# Altium schematic symbol library JMD_Parts.SchLib: 14 symbols
Pins are listed as number, name and electrical type; pins without a type are passive.

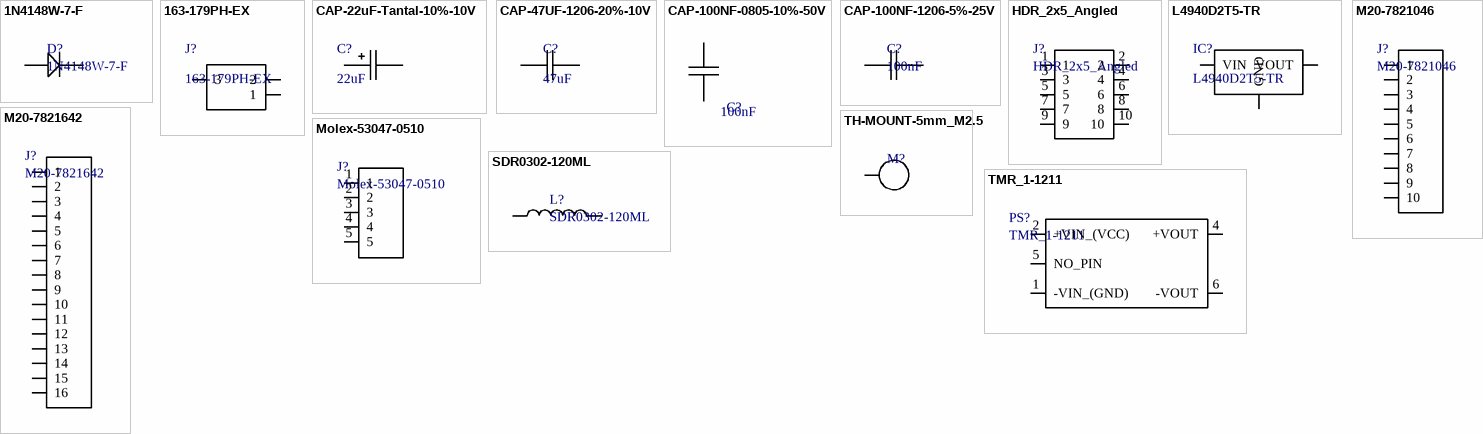
[diagram p0: symbols 1N4148W-7-F to TMR_1-1211]

## 1N4148W-7-F
designator D?
Diode; Manufacturer_Name: Diodes Inc.; Datasheet Link: https://componentsearchengine.com/Datasheets/1/1N4148W-7-F.pdf; Height: 1.15mm; Mouser2 Part Number: 621-1N4148W-F; Mouser2 Price/Stock: https://www.mouser.com/Search/Refine.aspx?Keyword=621-1N4148W-F; Manufacturer_Part_Number: 1N4148W-7-F
footprint SOD3716X115N
pins: 1 K, 2 A

## 163-179PH-EX
designator J?
Connector; Manufacturer_Name: Kobiconn; Datasheet Link: https://componentsearchengine.com/Datasheets/1/163-179PH-EX.pdf; Height: 11mm; Mouser2 Part Number: 163-179PH-EX; Manufacturer_Part_Number: 163-179PH-EX
footprint 163179PHEX
pins: 1, 2, 3

## CAP-22uF-Tantal-10%-10V
designator C?, comment 22uF
Capacitor Polarised; Manufacturer_Name: AVX; Manufacturer_Part_Number: TPSA226K010T0900; Datasheet Link: https://componentsearchengine.com/Datasheets/1/TPSA226K010T0900.pdf; Height: 1.8mm; Mouser2 Part Number: 581-TPSA226K010T0900
footprint CAPPM3216X180N
pins: 1, 2

## CAP-47UF-1206-20%-10V
designator C?, comment 47uF
Capacitor; Manufacturer_Name: Kemet; Manufacturer_Part_Number: C1206C476M8PACTU; Datasheet Link: http://componentsearchengine.com/Datasheets/1/C1206C476M8PACTU.pdf; Mouser2 Part Number: 80-C1206C476M8P
footprint CAPC3216X180N
pins: 1, 2

## CAP-100NF-0805-10%-50V
designator C?, comment 100nF
Capacitor 100 nF 50 VDC 0805, RND 150SH21B104K500, RND Components; Value: 100n; Field_Proven: no; Tolerance: 10%; Rated Voltage: 50VDC; Distrelec-No: 300-66-342; MPN: RND 150SH21B104K500; Manufacturer: RND Components; Checked: no
simulation model Capacitor (Simple Capacitor)
footprint SMD-CAP_0805_IPC_M
footprint SMD-CAP_0805_IPC_L
footprint SMD-CAP_0805_IPC_H
footprint CAPC3216X180N
pins: 1, 2

## CAP-100NF-1206-5%-25V
designator C?, comment 100nF
Capacitor; Manufacturer_Name: Kemet; Manufacturer_Part_Number: C1206C104J3JACTU; Height: 1mm; Mouser2 Part Number: 80-C1206C104J3J
footprint SMD-CAP_1206_IPC_M
pins: 1, 2

## HDR_2x5_Angled
designator J?
Connector; Manufacturer_Name: Wurth Elektronik; Manufacturer_Part_Number: 613010243121; Datasheet Link: https://componentsearchengine.com//613010243121.pdf; Mouser2 Part Number: 710-613010243121; Mouser2 Price/Stock: https://www.mouser.com/Search/Refine.aspx?Keyword=710-613010243121
footprint HDR2X5
pins: 1, 2, 3, 4, 5, 6, 7, 8, 9, 10

## L4940D2T5-TR
designator IC?
Integrated Circuit; Manufacturer_Name: STMicroelectronics; Datasheet Link: https://www.st.com/resource/en/datasheet/l4940.pdf; Manufacturer_Part_Number: L4940D2T5-TR
footprint ST_D2PAK
pins: 1 VIN, 2 VOUT, 3 GND

## M20-7821046
designator J?
Connector; Manufacturer_Name: HARWIN; Datasheet Link: https://componentsearchengine.com//M20-7821046.pdf; Height: 8.65mm; Mouser2 Part Number: 855-M20-7821046; Mouser2 Price/Stock: https://www.mouser.com/Search/Refine.aspx?Keyword=855-M20-7821046; Manufacturer_Part_Number: M20-7821046
footprint HDR1X10 (Connector; Header; 10 Position)
pins: 1, 2, 3, 4, 5, 6, 7, 8, 9, 10

## M20-7821642
designator J?
Connector; Manufacturer_Name: HARWIN; Datasheet Link: https://componentsearchengine.com//M20-7821642.pdf; Height: 8.65mm; Mouser2 Part Number: 855-M20-7821642; Mouser2 Price/Stock: https://www.mouser.com/Search/Refine.aspx?Keyword=855-M20-7821642; Manufacturer_Part_Number: M20-7821642
footprint HDR1X16 (Connector; Header; 16 Position)
pins: 1, 2, 3, 4, 5, 6, 7, 8, 9, 10, 11, 12, 13, 14, 15, 16

## Molex-53047-0510
designator J?
Connector; Manufacturer_Name: Molex; Datasheet Link: https://componentsearchengine.com/Datasheets/1/53047-0510.pdf; Height: 4.2mm; Mouser2 Part Number: 538-53047-0510; Mouser2 Price/Stock: https://www.mouser.com/Search/Refine.aspx?Keyword=538-53047-0510; Manufacturer_Part_Number: 53047-0510
footprint SHDR5W36P0X125_1X5_800X320X420P
pins: 1, 2, 3, 4, 5

## SDR0302-120ML
designator L?
Inductor; Manufacturer_Name: Bourns; Datasheet Link: https://www.bourns.com/docs/Product-Datasheets/SDR0302.pdf; Mouser2 Part Number: 652-SDR0302-120ML; Manufacturer_Part_Number: SDR0302-120ML
footprint SDR0302-471KL
pins: 1, 2

## TH-MOUNT-5mm_M2.5
designator M?  (value not drawn)
footprint TH-MOUNT-HOLE_5mm_M2.5
pins: 1

## TMR_1-1211
designator PS?
Power Supply; Manufacturer_Name: Traco Power; Manufacturer_Part_Number: TMR 1-1211; Datasheet Link: https://componentsearchengine.com/Datasheets/1/TMR 1-1211.pdf; Mouser2 Part Number: 495-TMR-1-1211; Mouser2 Price/Stock: https://www.mouser.com/Search/Refine.aspx?Keyword=495-TMR-1-1211
footprint TMR-1-1215
pins: 1 -VIN_(GND), 2 +VIN_(VCC), 4 +VOUT, 5 NO_PIN, 6 -VOUT